# Altium footprint library 76sD01T.pcblib: 1 footprints
Each footprint in its own frame and in the unit in brackets; x right, y up, seen from the top. Pads: shape width x height; smd on the part's side, far side on the other; paste and mask are expansions set on the pad; w line width, h text height; cw(c..) or ccw(c..) is an arc to the next point about the centre after c.
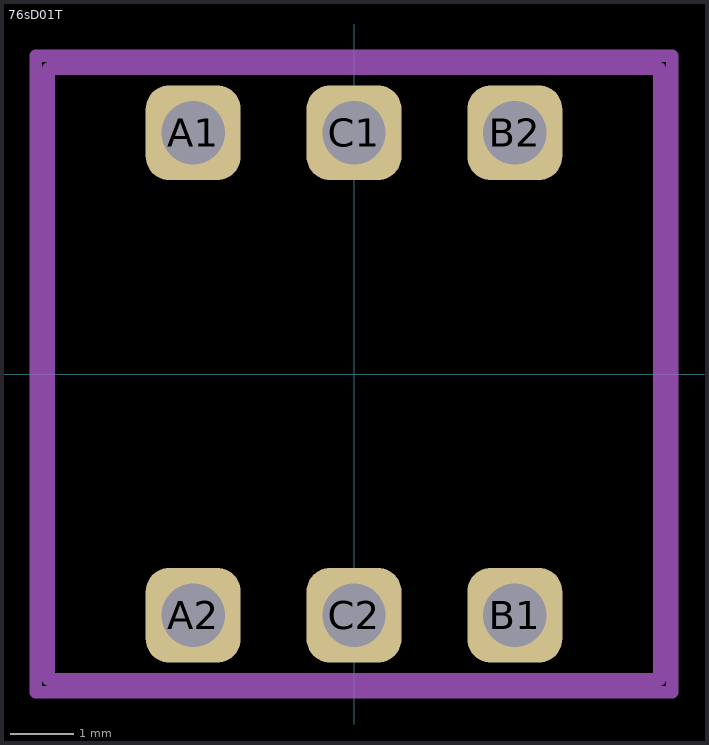
[diagram p0: the footprint, top view; thin cyan lines are the x and y axes]

## 76sD01T [mm]
pads (6):
  rrect50% 1.5x1.5 hole 1 mask+0.05: A1(-2.54,3.81) A2(-2.54,-3.81) B1(2.54,-3.81) B2(2.54,3.81) C1(0,3.81) C2(0,-3.81)
Top Assembly:
  lines w0.2: -4.825,-4.825 4.825,-4.825 4.825,4.825 -4.825,4.825 -4.825,-4.825
Top Courtyard:
  lines w0.2: -5.025,-5.025 5.025,-5.025 5.025,5.025 -5.025,5.025 -5.025,-5.025
3D body: height 8, standoff 2.19, extent -0.5,-1.25 0.5,1.25
3D body: height 2.55, standoff -3.45, extent -2.788,-4.059 -2.29,-3.56
3D body: height 2.55, standoff -3.45, extent -0.248,-4.059 0.25,-3.56
3D body: height 2.55, standoff -3.45, extent 2.292,-4.059 2.79,-3.56
3D body: height 2.55, standoff -3.45, extent -2.788,3.561 -2.29,4.06
3D body: height 2.55, standoff -3.45, extent -0.248,3.561 0.25,4.06
3D body: height 6.78, standoff 0.51, extent -4.825,-4.825 4.825,4.825
3D body: height 2.55, standoff -3.45, extent 2.292,3.561 2.79,4.06